# Altium footprint library NUCLEO-F303K8.PcbLib: 1 footprints
Each footprint in its own frame and in the unit in brackets; x right, y up, seen from the top. Pads: shape width x height; smd on the part's side, far side on the other; paste and mask are expansions set on the pad; w line width, h text height; cw(c..) or ccw(c..) is an arc to the next point about the centre after c.
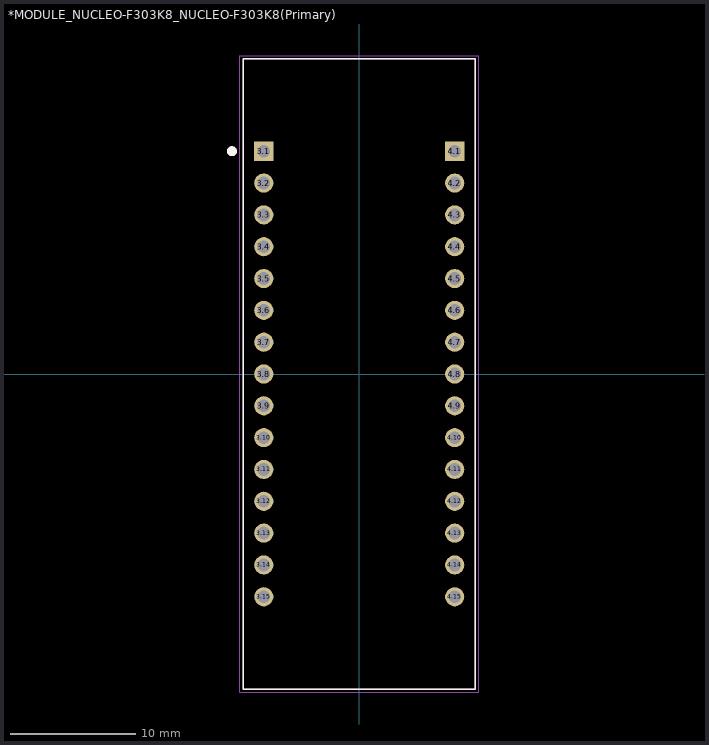
[diagram p0: the footprint, top view; thin cyan lines are the x and y axes]

## *MODULE_NUCLEO-F303K8_NUCLEO-F303K8(Primary) [mm]
pads (30):
  rect 1.53x1.53 hole 1.02: 3.1(-7.62,17.78) 4.1(7.62,17.78)
  round 1.53 hole 1.02: 3.2(-7.62,15.24) 3.3(-7.62,12.7) 3.4(-7.62,10.16) 3.5(-7.62,7.62) 3.6(-7.62,5.08) 3.7(-7.62,2.54) 3.8(-7.62,0) 3.9(-7.62,-2.54) 3.10(-7.62,-5.08) 3.11(-7.62,-7.62) 3.12(-7.62,-10.16) 3.13(-7.62,-12.7) 3.14(-7.62,-15.24) 3.15(-7.62,-17.78) 4.2(7.62,15.24) 4.3(7.62,12.7) 4.4(7.62,10.16) 4.5(7.62,7.62) 4.6(7.62,5.08) 4.7(7.62,2.54) 4.8(7.62,0) 4.9(7.62,-2.54) 4.10(7.62,-5.08) 4.11(7.62,-7.62) 4.12(7.62,-10.16) 4.13(7.62,-12.7) 4.14(7.62,-15.24) 4.15(7.62,-17.78)
Top Overlay:
  circle w0.4: c-10.16,17.78 r0.2
  lines w0.127: -9.27,-25.145 9.27,-25.145 9.27,25.145 -9.27,25.145 -9.27,-25.145
Mechanical 4:
  lines w0.127: -9.27,-25.145 9.27,-25.145 ; -9.27,-25.145 -9.27,25.145 ; -9.27,-25.145 9.27,-25.145 ; -9.27,-25.145 -9.27,25.145 ; -9.27,25.145 9.27,25.145 ; -9.27,25.145 9.27,25.145 ; 9.27,-25.145 9.27,25.145 ; 9.27,-25.145 9.27,25.145
Mechanical 16:
  lines w0.05: -9.52,-25.395 9.52,-25.395 9.52,25.395 -9.52,25.395 -9.52,-25.395